# EAGLE library part TMM-107-XX-X-D (library con-samtec-tmm)
HEADER
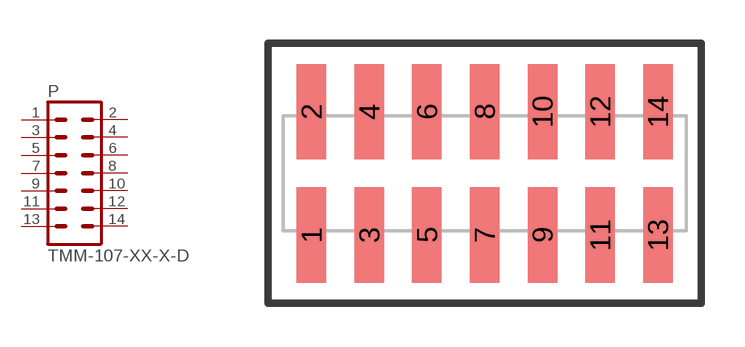
[diagram p4: symbol with the pads of TMM-107-XX-X-D; footprint TMM-107-XX-X-D]

Designator prefix P

## TMM-107-XX-X-D  [TMM-107-XX-X-D]
1  1  pas
2  2  pas
3  3  pas
4  4  pas
5  5  pas
6  6  pas
7  7  pas
8  8  pas
9  9  pas
10  10  pas
11  11  pas
12  12  pas
13  13  pas
14  14  pas

## Footprint TMM-107-XX-X-D (pad centres in mm)
HEADER
smd 1.02 x 3.3: 1 -6,-2.134; 2 -6,2.134; 3 -4,-2.134; 4 -4,2.134; 5 -2,-2.134; 6 -2,2.134; 7 0,-2.134; 8 0,2.134; 9 2,-2.134; 10 2,2.134; 11 4,-2.134; 12 4,2.134; 13 6,-2.134; 14 6,2.134